# Altium footprint library wulpus_pro_acq.PcbLib: 62 footprints (part 1 of 4)
Each footprint in its own frame and in the unit in brackets; x right, y up, seen from the top. Pads: shape width x height; smd on the part's side, far side on the other; paste and mask are expansions set on the pad; w line width, h text height; cw(c..) or ccw(c..) is an arc to the next point about the centre after c.
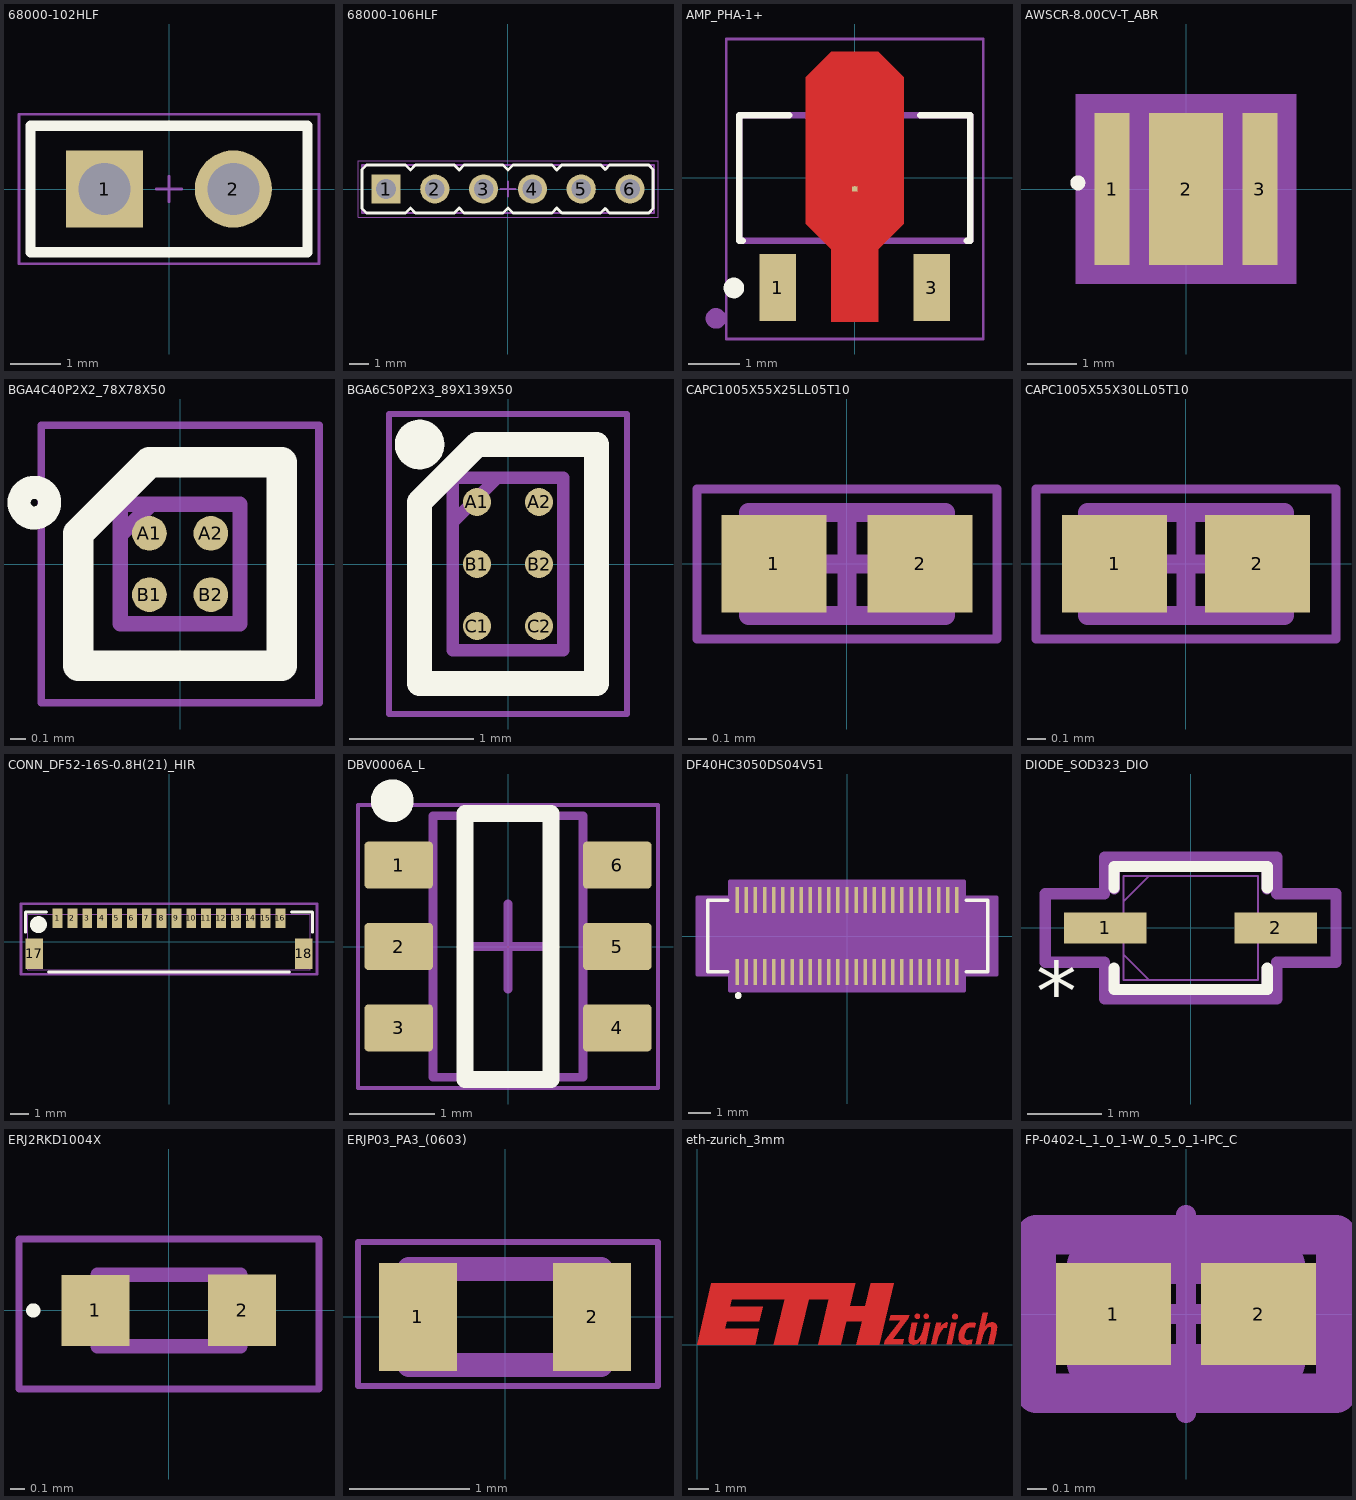
[diagram p0: the footprints below, top view; thin cyan lines are the x and y axes]

## 68000-102HLF [mm]
pads (2):
  rect 1.52x1.52 hole 1.02: 1(-1.27,0)
  round 1.52 hole 1.02: 2(1.27,0)
Top Overlay:
  lines w0.2: -2.73,-1.245 2.73,-1.245 2.73,1.245 -2.73,1.245 -2.73,-1.245
Mechanical 12:
  lines w0.1: -2.73,1.245 2.73,1.245 2.73,-1.245 -2.73,-1.245 -2.73,1.245
Top Courtyard:
  lines w0.05: -0.254,0 0.254,0 ; 0,-0.254 0,0.254 ; -2.955,-1.47 2.955,-1.47 2.955,1.47 -2.955,1.47 -2.955,-1.47
3D body "68000-102HLF.step": height 8.39, standoff -2.4, extent -2.54,-1.206 2.54,1.207

## 68000-106HLF [mm]
pads (6):
  rect 1.52x1.52 hole 1.02: 1(-6.35,0)
  round 1.52 hole 1.02: 2(-3.81,0) 3(-1.27,0) 4(1.27,0) 5(3.81,0) 6(6.35,0)
Top Overlay:
  lines w0.15: -7.6,-1.015 -7.37,-1.245 -5.334,-1.245 -5.08,-0.991 -4.826,-1.245 -2.794,-1.245 -2.54,-0.991 -2.286,-1.245 -0.254,-1.245 0,-0.991 0.254,-1.245 2.286,-1.245 2.54,-0.991 2.803,-1.254 4.821,-1.254 5.06,-1.015 5.29,-1.245 7.326,-1.245 7.556,-1.015 7.556,1.015 7.326,1.245 5.29,1.245 5.06,1.015 4.83,1.245 2.794,1.245 2.54,0.991 2.286,1.245 0.254,1.245 0,0.991 -0.254,1.245 -2.286,1.245 -2.54,0.991 -2.794,1.245 -4.826,1.245 -5.08,0.991 -5.334,1.245 -7.37,1.245 -7.6,1.015 -7.6,-1.015
Mechanical 12:
  lines w0.1: -7.6,-1.245 -7.6,1.245 7.6,1.245 7.6,-1.245 -7.6,-1.245
Top Courtyard:
  lines w0.05: -7.81,-1.47 -7.81,1.47 7.81,1.47 7.81,-1.47 -7.81,-1.47
  lines w0.1: -0.4,0 0.4,0 ; 0,-0.4 0,0.4
3D body "step.step": height 8.39, standoff -2.4, extent -7.62,-1.206 7.62,1.207

## AMP_PHA-1+ [mil]
pads (4):
  rect 28x51.18 smd: 1(-59,-84) 3(59,-84)
  round 1 smd: 2(0,-6.75)
  rect 3.94x3.94 smd paste-39.37 mask+0: 2_4(0,-8.5)
Top Layer:
  region: 37.5,77 37.5,-35 18,-54.5 18,-110 -18,-110 -18,-54.5 -37.5,-35 -37.5,77 -18,96.5 18,96.5
Top Overlay:
  circle w7.87: c-92.52,-84.29 r3.94
  lines w5: -85.6,-48 -88.5,-48 -88.5,48 -50.12,48 ; 50.12,48 88.5,48 88.5,-48 85.6,-48
Top Paste:
  region: 37.5,77 37.5,-35 18,-54.5 18,-110 -18,-110 -18,-54.5 -37.5,-35 -37.5,77 -18,96.5 18,96.5
Top 3D Body:
  circle w7.87: c-106.24,-107.62 r3.94
  lines w5: -88.5,-48 88.5,-48 88.5,48 -88.5,48 -88.5,-48
Top Courtyard:
  lines w1.97: -98.34,-123.35 -98.34,106.34 98.34,106.34 98.34,-123.35 -98.34,-123.35
3D body "step_temp.STEP": height 62.99, standoff 0, extent -88.58,-80.61 88.58,80.61

## AWSCR-8.00CV-T_ABR [mil]
pads (3):
  rect 28x122 smd paste+0 mask+0: 1(-59.06,0) 3(59.06,0)
  rect 59x122 smd paste+0 mask+0: 2(0,0)
Top Overlay:
  circle w6: c-86.61,4.92 r3
Top Assembly:
  region: 88.06,-76 -88.06,-76 -88.06,76 88.06,76
Top 3D Body:
  circle w0: c-70,0 r3
  lines w1: -73,-61 73,-61 73,61 -73,61 -73,-61
Top Courtyard:
  region: 73,-61 -73,-61 -73,61 73,61
  region: -83.06,-71 -83.06,71 -35.06,71 -39.5,71 39.5,71 35.06,71 83.06,71 83.06,-71 35.06,-71 39.5,-71 -39.5,-71 -35.06,-71
  lines w6: -83.06,-71 -83.06,71 -35.06,71 -39.5,71 39.5,71 35.06,71 83.06,71 83.06,-71 35.06,-71 39.5,-71 -39.5,-71 -35.06,-71 -83.06,-71
3D body "AWSCR-8.00CV-T--3DModel-STEP-400430.STEP": height 47.94, standoff 0.3, extent -72.83,-61.22 72.84,61.22
3D body: height 10, standoff 0, extent 0,0 10,10

## BGA4C40P2X2_78X78X50 [mm]
pads (4):
  round 0.226 smd: A1(-0.2,0.2) A2(0.2,0.2) B1(-0.2,-0.2) B2(0.2,-0.2)
Top Overlay:
  circle w0.15: c-0.95,0.4 r0.1
  lines w0.2: -0.663,-0.663 -0.663,0.2 -0.2,0.663 0.663,0.663 0.663,-0.663 -0.663,-0.663
Top Courtyard:
  lines w0.1: -0.39,0.188 -0.188,0.39 ; -0.39,-0.39 -0.39,0.39 0.39,0.39 0.39,-0.39 -0.39,-0.39
Bottom Assembly:
  lines w0.05: -0.905,-0.905 -0.905,0.905 0.905,0.905 0.905,-0.905 -0.905,-0.905

## BGA6C50P2X3_89X139X50 [mm]
pads (6):
  round 0.226 smd: A1(-0.25,0.5) A2(0.25,0.5) B1(-0.25,0) B2(0.25,0) C1(-0.25,-0.5) C2(0.25,-0.5)
Top Overlay:
  circle w0.2: c-0.713,0.963 r0.1
  lines w0.2: -0.713,-0.963 -0.713,0.5 -0.25,0.963 0.713,0.963 0.713,-0.963 -0.713,-0.963
Top Courtyard:
  lines w0.1: -0.444,0.34 -0.09,0.694 ; -0.444,-0.694 -0.444,0.694 0.444,0.694 0.444,-0.694 -0.444,-0.694
Bottom Assembly:
  lines w0.05: -0.959,-1.209 -0.959,1.209 0.959,1.209 0.959,-1.209 -0.959,-1.209
3D body "TS5A3159AYZPR.stp": height 0.5, standoff 0, extent -0.444,-0.694 0.444,0.694

## CAPC1005X55X25LL05T10 [mm]
pads (2):
  rect 0.56x0.52 smd: 1(-0.39,0) 2(0.39,0)
Top 3D Body:
  lines w0.1: -0.525,-0.275 -0.525,0.275 0.525,0.275 0.525,-0.275 -0.525,-0.275
Top Courtyard:
  lines w0.05: -0.8,-0.4 -0.8,0.4 0.8,0.4 0.8,-0.4 -0.8,-0.4
  lines w0.1: -0.275,0 0.275,0 ; 0,-0.275 0,0.275
3D body: height 0.55, standoff 0, extent -0.525,-0.275 -0.275,0.275
3D body: height 0.55, standoff 0, extent 0.275,-0.275 0.525,0.275
3D body: height 0.55, standoff 0, extent -0.275,-0.275 0.275,0.275

## CAPC1005X55X30LL05T10 [mm]
pads (2):
  rect 0.56x0.52 smd: 1(-0.38,0) 2(0.38,0)
Top 3D Body:
  lines w0.1: -0.525,-0.275 -0.525,0.275 0.525,0.275 0.525,-0.275 -0.525,-0.275
Top Courtyard:
  lines w0.05: -0.8,-0.4 -0.8,0.4 0.8,0.4 0.8,-0.4 -0.8,-0.4
  lines w0.1: -0.275,0 0.275,0 ; 0,-0.275 0,0.275
3D body: height 0.55, standoff 0, extent -0.225,-0.275 0.225,0.275
3D body: height 0.55, standoff 0, extent -0.525,-0.275 -0.225,0.275
3D body: height 0.55, standoff 0, extent 0.225,-0.275 0.525,0.275

## CONN_DF52-16S-0.8H(21)_HIR [mil]
pads (18):
  rect 21x41 smd paste+0 mask+0: 1(-236.22,50.63) 2(-204.72,50.63) 3(-173.23,50.63) 4(-141.73,50.63) 5(-110.24,50.63) 6(-78.74,50.63) 7(-47.24,50.63) 8(-15.75,50.63) 9(15.75,50.63) 10(47.24,50.63) 11(78.74,50.63) 12(110.24,50.63) 13(141.73,50.63) 14(173.23,50.63) 15(204.72,50.63) 16(236.22,50.63)
  rect 37x65 smd: 17(-285.43,-24.96) 18(285.43,-24.96)
Top Overlay:
  circle w20: c-276.57,36.85 r7.87
  lines w6: -304,20.64 -304,63.5 -259.82,63.5 ; -255.31,-63.5 255.31,-63.5 ; 259.82,63.5 304,63.5 304,20.64
Top 3D Body:
  lines w1: -299,-58.5 299,-58.5 299,58.5 -299,58.5 -299,-58.5
Top Courtyard:
  lines w6: -313.93,-68.5 313.93,-68.5 313.93,81.13 -313.93,81.13 -313.93,-68.5
3D body: height 10, standoff 0, extent 0,0 10,10
3D body "DF52-16S-0.8H-21---3DModel-STEP-1.STEP": height 69.4, standoff 0.5, extent -295.28,-55.12 295.27,53.93

## DBV0006A_L [mm]
pads (6):
  rrect18% 0.8x0.55 smd: 1(-1.275,0.95) 2(-1.275,0) 3(-1.275,-0.95) 4(1.275,-0.95) 5(1.275,0) 6(1.275,0.95)
Top Overlay:
  circle w0.25: c-1.35,1.7 r0.125
  lines w0.2: -0.5,-1.55 0.5,-1.55 0.5,1.55 -0.5,1.55 -0.5,-1.55
Mechanical 1:
  text ".Designator" at -0.635,-0.127 h0.8
Top 3D Body:
  lines w0.1: -0.875,-1.525 -0.875,1.525 0.875,1.525 0.875,-1.525 -0.875,-1.525
Top Courtyard:
  lines w0.05: -1.75,-1.65 -1.75,1.65 1.75,1.65 1.75,-1.65 -1.75,-1.65
  lines w0.1: -0.5,0 0.5,0 ; 0,-0.5 0,0.5
3D body "DBV0006AakaMF06A.stp": height 1.11, standoff -0.01, extent -1.422,-1.461 1.422,1.46

## DF40HC3050DS04V51 [mil]
pads (50):
  rect 6x44.56 smd paste+0 mask+0: 1(-188.98,-62) 2(-173.23,-62) 3(-157.48,-62) 4(-141.73,-62) 5(-125.98,-62) 6(-110.24,-62) 7(-94.49,-62) 8(-78.74,-62) 9(-62.99,-62) 10(-47.24,-62) 11(-31.5,-62) 12(-15.75,-62) 13(0,-62) 14(15.75,-62) 15(31.5,-62) 16(47.24,-62) 17(62.99,-62) 18(78.74,-62) 19(94.49,-62) 20(110.24,-62) 21(125.98,-62) 22(141.73,-62) 23(157.48,-62) 24(173.23,-62) 25(188.98,-62) 26(188.98,62) 27(173.23,62) 28(157.48,62) 29(141.73,62) 30(125.98,62) 31(110.24,62) 32(94.49,62) 33(78.74,62) 34(62.99,62) 35(47.24,62) 36(31.5,62) 37(15.75,62) 38(0,62) 39(-15.75,62) 40(-31.5,62) 41(-47.24,62) 42(-62.99,62) 43(-78.74,62) 44(-94.49,62) 45(-110.24,62) 46(-125.98,62) 47(-141.73,62) 48(-157.48,62) 49(-173.23,62) 50(-188.98,62)
Top Overlay:
  circle w7.87: c-187.01,-102.36 r1.97
  lines w6: -205.08,-61.5 -239.17,-61.5 -239.17,61.5 -205.08,61.5 ; 205.08,-61.5 242.13,-61.5 242.13,61.5 205.08,61.5
Top 3D Body:
  lines w1: -248,-56.5 -248,56.5 248,56.5 248,-56.5 -248,-56.5
Top Courtyard:
  region: 248,-56.5 -248,-56.5 -248,56.5 248,56.5
  region: -201.98,-66.5 -258,-66.5 -258,66.5 -201.98,66.5 -201.98,94.28 201.98,94.28 201.98,66.5 258,66.5 258,-66.5 201.98,-66.5 201.98,-94.28 -201.98,-94.28
  lines w6: -258,-66.5 -201.98,-66.5 -201.98,-94.28 201.98,-94.28 201.98,-66.5 258,-66.5 258,66.5 201.98,66.5 201.98,94.28 -201.98,94.28 -201.98,66.5 -258,66.5 -258,-66.5
3D body "DF40HC(3.0)-50DS.stp": height 113.78, standoff -0.39, extent -248.03,-66.54 248.03,66.54

## DIODE_SOD323_DIO [mil]
pads (2):
  rect 43.56x16.36 smd paste+0 mask+0: 1(-45,0) 2(45,0)
Top Overlay:
  lines w6: -40.5,-21.28 -40.5,-32.5 40.5,-32.5 40.5,-21.28 ; -40.5,21.28 -40.5,32.5 40.5,32.5 40.5,21.28
  text "*" at -81.69,-49.13 h31.5
Top Assembly:
  lines w5.98: -40.35,-21.65 -40.35,-32.48 40.35,-32.48 40.35,-21.65 ; -40.35,20.67 -40.35,32.48 40.35,32.48 40.35,20.67
  text "BD" at 17.71,9.84 h31.5
  text ".Designator" at -48.23,-19.52 h31.5
Top 3D Body:
  lines w1: -35.5,-13.75 -21.75,-27.5 ; -35.5,13.75 -21.75,27.5 ; -53,-7 -53,7 -35.5,7 -35.5,-7 -53,-7 ; -35.5,-27.5 35.5,-27.5 35.5,27.5 -35.5,27.5 -35.5,-27.5 ; 35.5,-7 35.5,7 53,7 53,-7 35.5,-7
  text "*" at -38,-25 h31.5
Top Courtyard:
  lines w6: -76.78,-18.18 -76.78,18.18 -45.5,18.18 -45.5,37.5 45.5,37.5 45.5,18.18 76.78,18.18 76.78,-18.18 45.5,-18.18 45.5,-37.5 -45.5,-37.5 -45.5,-18.18 -76.78,-18.18
3D body "DIODE_SOD323_DIO.step": height 47.09, standoff 0, extent -52.99,-27.48 52.99,27.48

## ERJ2RKD1004X [mm]
pads (2):
  rect 0.475x0.5 smd: 1(-0.515,0) 2(0.512,0)
Top Overlay:
  lines w0.05: -0.95,-0.025 ccw(c-0.95,0) -0.95,0.025 ccw(c-0.95,0) -0.95,-0.025
Top 3D Body:
  lines w0.1: -0.5,-0.25 -0.5,0.25 0.5,0.25 0.5,-0.25 -0.5,-0.25
Top Courtyard:
  lines w0.05: -1.05,-0.55 -1.05,0.5 1.05,0.5 1.05,-0.55 -1.05,-0.55
3D body "ERJ-2RKF1004X.stp": height 0.35, standoff 0, extent -0.5,-0.25 0.5,0.25

## ERJP03_PA3_(0603) [mm]
pads (2):
  rect 0.65x0.9 smd: 1(-0.725,0) 2(0.725,0)
Top 3D Body:
  lines w0.2: -0.8,-0.4 -0.8,0.4 0.8,0.4 0.8,-0.4 -0.8,-0.4
Top Courtyard:
  lines w0.05: -1.225,-0.575 -1.225,0.625 1.275,0.625 1.275,-0.575 -1.225,-0.575
3D body "ERJ-PA3J302V.stp": height 0.45, standoff 0, extent -0.8,-0.4 0.8,0.4

## eth-zurich_3mm [mm]
Top Layer:
  circle w0.3: c12.598,1.372 r0.001
  circle w0.27: c11.193,1.389 r0.001
  circle w0.27: c10.764,1.389 r0.001
  region: 14.118,0.96 14.049,0.879 14.2,1.562 13.955,1.562 13.614,0.024 13.86,0.024 13.95,0.433 14.001,0.555 14.061,0.663 14.121,0.759 14.181,0.822 14.229,0.855 14.277,0.879 14.313,0.879 14.349,0.867 14.373,0.843 14.379,0.807 14.379,0.759 14.373,0.717 14.219,0.024 14.486,0.024 14.601,0.555 14.644,0.753 14.649,0.843 14.637,0.927 14.613,0.999 14.565,1.047 14.505,1.083 14.457,1.095 14.361,1.095 14.265,1.071 14.181,1.023
  region: 13.614,1.051 13.56,1.071 13.5,1.08 13.404,1.08 13.296,1.071 13.182,1.044 13.086,0.996 13.008,0.936 12.96,0.888 12.912,0.828 12.87,0.756 12.84,0.684 12.81,0.6 12.792,0.522 12.78,0.444 12.78,0.342 12.792,0.252 12.81,0.192 12.84,0.132 12.876,0.084 12.924,0.048 12.978,0.024 13.032,0.012 13.152,0 13.212,0 13.32,0.012 13.387,0.028 13.416,0.036 13.441,0.272 13.386,0.252 13.308,0.234 13.248,0.228 13.206,0.228 13.158,0.24 13.116,0.264 13.092,0.288 13.074,0.324 13.062,0.366 13.056,0.408 13.056,0.462 13.068,0.54 13.092,0.618 13.122,0.684 13.158,0.738 13.212,0.804 13.26,0.834 13.308,0.852 13.356,0.858 13.428,0.858 13.494,0.852 13.524,0.846 13.566,0.834
  region: 12.438,0.024 12.671,1.071 12.424,1.071 12.192,0.024
  region: 11.857,0.78 11.922,1.071 11.676,1.071 11.444,0.024 11.689,0.024 11.727,0.193 11.784,0.378 11.85,0.54 11.904,0.642 11.979,0.741 12.03,0.792 12.072,0.822 12.114,0.84 12.144,0.84 12.184,0.83 12.24,1.08 12.204,1.086 12.168,1.086 12.132,1.08 12.078,1.056 12.042,1.032 11.994,0.99 11.952,0.948 11.904,0.876
  region: 11.166,0.024 11.398,1.071 11.121,1.071 11.031,0.661 10.98,0.54 10.92,0.432 10.86,0.336 10.8,0.273 10.752,0.24 10.704,0.216 10.668,0.216 10.632,0.228 10.608,0.252 10.602,0.288 10.602,0.336 10.608,0.378 10.763,1.071 10.496,1.071 10.38,0.54 10.336,0.342 10.332,0.252 10.344,0.168 10.368,0.096 10.416,0.048 10.476,0.012 10.524,0 10.62,0 10.716,0.024 10.8,0.072 10.863,0.135 10.932,0.216 10.89,0.024
  region: 10.359,1.44 9.452,1.44 9.396,1.191 9.945,1.191 9.172,0.185 9.138,0.024 10.044,0.024 10.099,0.273 9.549,0.273 10.325,1.284
  region: 8.895,0 9.6,3 8.493,3 8.227,1.87 7.459,1.87 7.723,3 0.705,3 0,0 1.171,0 2.838,0 3.021,0.78 1.356,0.78 1.442,1.146 3.034,1.146 3.204,1.866 1.609,1.866 1.693,2.22 4.273,2.22 3.75,0 4.923,0 5.445,2.22 6.433,2.22 5.913,0 7.02,0 7.29,1.151 8.058,1.151 7.788,0
Top Solder:
  drawing of 10 lines, arcs and shapes, not listed

## FP-0402-L_1_0_1-W_0_5_0_1-IPC_C [mm]
pads (2):
  rect 0.581x0.512 smd paste+0 mask+0: 1(-0.366,0) 2(0.366,0)
Top Assembly:
  lines w0.2: -0.756,-0.4 -0.756,0.4 0.756,0.4 0.756,-0.4 -0.756,-0.4
  text ".Designator" at 0.15,0.417 h0.8
Top 3D Body:
  lines w0.2: -0.5,-0.25 -0.5,0.25 0.5,0.25 0.5,-0.25 -0.5,-0.25
Top Courtyard:
  lines w0.2: -0.756,-0.4 -0.756,0.4 0.756,0.4 0.756,-0.4 -0.756,-0.4
Top Component Center:
  lines w0.1: -0.5,0 0.5,0 ; 0,-0.5 0,0.5
3D body "Cap_AVX_04025C472KAT2A_eec.STEP": height 0.56, standoff 0, extent -0.5,-0.25 0.5,0.25